# Altium footprint library PcbLib1.PcbLib: 2 footprints
Each footprint in its own frame and in the unit in brackets; x right, y up, seen from the top. Pads: shape width x height; smd on the part's side, far side on the other; paste and mask are expansions set on the pad; w line width, h text height; cw(c..) or ccw(c..) is an arc to the next point about the centre after c.
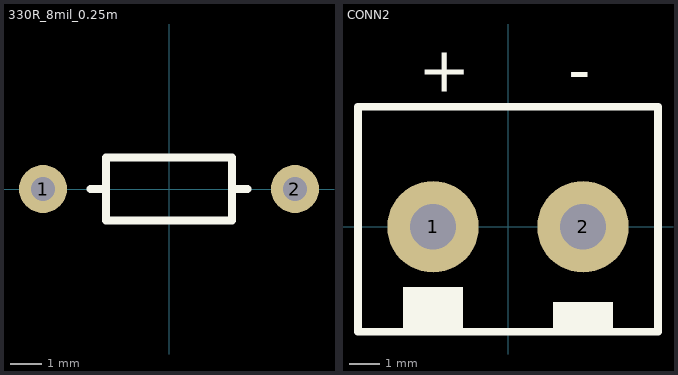
[diagram p0: the footprints below, top view; thin cyan lines are the x and y axes]

## 330R_8mil_0.25m [mil]
pads (2):
  round 60 hole 30: 1(-157.48,0) 2(157.48,0)
Top Overlay:
  lines w10: -98.43,0 -78.74,0 ; 78.74,0 98.43,0 ; -78.74,-39.37 78.74,-39.37 78.74,39.37 -78.74,39.37 -78.74,-39.37
3D body "R330_L8mm_0.25watts.STEP": height 103.74, standoff -103.35, extent -167.32,-49.61 167.32,49.61

## CONN2 [mil]
pads (2):
  round 120 hole 60: 1(-98.43,0) 2(98.43,0)
Top Overlay:
  rectangle: -137.8,-137.8 -59.06,-78.74
  rectangle: 59.06,-137.8 137.8,-98.43
  lines w10: -196.85,-137.8 196.85,-137.8 196.85,157.48 -196.85,157.48 -196.85,-137.8
  text "+" at -118.11,177.17 h60
  text "-" at 78.74,177.17 h60
3D body "Connector.STEP": height 394.2, standoff -127.45, extent -196.85,-137.8 196.85,157.48